# Altium schematic symbol library NUP4114HMR6T1G.SchLib: 1 symbol
Pins are listed as number, name and electrical type; pins without a type are passive.

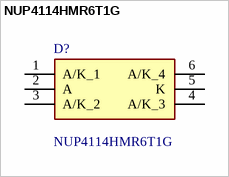
[diagram p0: symbol NUP4114HMR6T1G]

## NUP4114HMR6T1G
designator D?
Low Clamping Voltage; Small Body Outline Dimensions on SC88 Package:0.082 x 0.078 (2.10 mm x 1.25 mm); Low Body Height: 0.043 (1.10 mm); Standoff Voltage: 5.5 V; Low Leakage; Response Time is Typically < 1.0 ns; IEC6100042 Level 4 ESD Protection; These Devices are PbFree and are RoHS Compliant; AECQ101 Qualified and PPAP Capable for SZNUP4114; Meets UL 94 V-0; SZ prefix for automotive and other applications requiring unique site and control change requirements; Manufacturer_Name: onsemi; Geometry.Height: 1.1mm; Manufacturer_Part_Number: NUP4114HMR6T1G; Mouser Part Number: 863-NUP4114HMR6T1G; Mouser Price/Stock: https://www.mouser.co.uk/ProductDetail/onsemi/NUP4114HMR6T1G?qs=N5dOQkml4H94pJEa3E8tzw%3D%3D; Arrow Part Number: NUP4114HMR6T1G; Arrow Price/Stock: https://www.arrow.com/en/products/nup4114hmr6t1g/on-semiconductor?region=nac; Datasheet Link: https://www.onsemi.com/pub/Collateral/NUP4114-D.PDF
footprint SOT95P275X110-6N
pins: 1 A/K_1, 2 A, 3 A/K_2, 4 A/K_3, 5 K, 6 A/K_4